# Altium footprint library Trans_Infineon_IRLML6402TRPBF.PcbLib: 1 footprints
Each footprint in its own frame and in the unit in brackets; x right, y up, seen from the top. Pads: shape width x height; smd on the part's side, far side on the other; paste and mask are expansions set on the pad; w line width, h text height; cw(c..) or ccw(c..) is an arc to the next point about the centre after c.
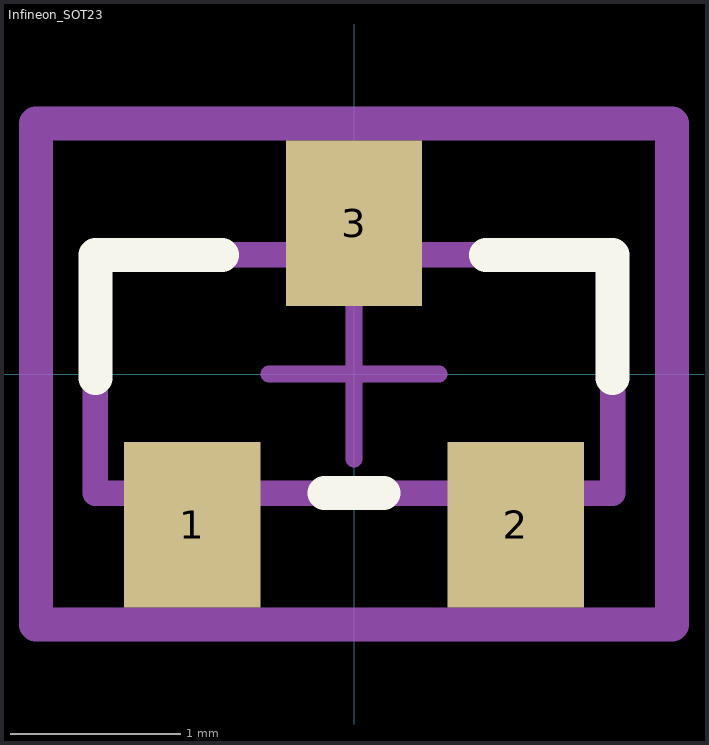
[diagram p0: the footprint, top view; thin cyan lines are the x and y axes]

## Infineon_SOT23 [mm]
pads (3):
  rect 0.802x0.972 smd: 1(-0.95,-0.885) 2(0.95,-0.885) 3(0,0.885)
Top Overlay:
  lines w0.2: -1.52,-0.024 -1.52,0.7 -0.776,0.7 ; -0.174,-0.7 0.174,-0.7 ; 0.776,0.7 1.52,0.7 1.52,-0.024
Mechanical 10:
  lines w0.2: -1.87,-1.471 1.87,-1.471 1.87,1.471 -1.87,1.471 -1.87,-1.471
  text ".Designator" at 0,0 h1
Mechanical 12:
  lines w0.15: -1.52,-0.7 1.52,-0.7 1.52,0.7 -1.52,0.7 -1.52,-0.7
Mechanical 15:
  lines w0.1: -0.5,0 0.5,0 ; 0,-0.5 0,0.5
  lines w0.2: -1.87,-1.471 1.87,-1.471 1.87,1.471 -1.87,1.471 -1.87,-1.471
3D body "Trans_Infineon_IRLML6402TRPBF_eec.STEP": height 0.25, standoff 0, extent -1.87,-1.471 1.87,1.471